# Altium footprint library 6-103635-0.PcbLib: 2 footprints
Each footprint in its own frame and in the unit in brackets; x right, y up, seen from the top. Pads: shape width x height; smd on the part's side, far side on the other; paste and mask are expansions set on the pad; w line width, h text height; cw(c..) or ccw(c..) is an arc to the next point about the centre after c.
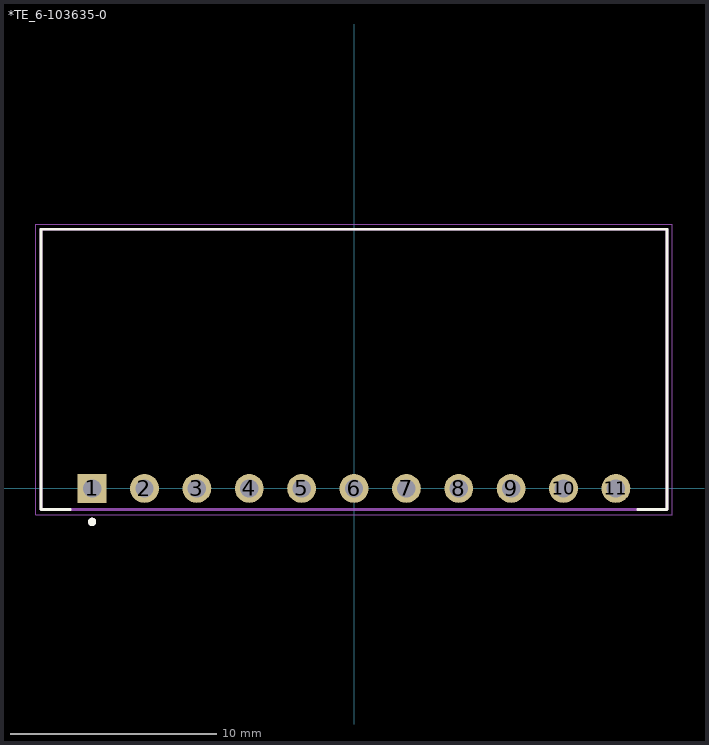
[diagram p0: the footprints below, top view; thin cyan lines are the x and y axes]

## *TE_6-103635-0 [mm]
pads (11):
  rect 1.398x1.398 hole 0.89: 1(-12.7,0)
  round 1.398 hole 0.89: 2(-10.16,0) 3(-7.62,0) 4(-5.08,0) 5(-2.54,0) 6(0,0) 7(2.54,0) 8(5.08,0) 9(7.62,0) 10(10.16,0) 11(12.7,0)
Top Overlay:
  circle w0.2: c-12.7,-1.62 r0.1
  lines w0.127: -13.756,-1.02 -15.18,-1.02 -15.18,12.57 15.18,12.57 15.18,-1.02 13.756,-1.02
Mechanical 4:
  circle w0.2: c-12.7,-1.62 r0.1
  circle w0.2: c-12.7,-1.62 r0.1
  lines w0.127: -15.18,-1.02 15.18,-1.02 ; -15.18,-1.02 -15.18,12.57 ; -15.18,-1.02 15.18,-1.02 ; -15.18,-1.02 -15.18,12.57 ; -15.18,12.57 15.18,12.57 ; -15.18,12.57 15.18,12.57 ; 15.18,-1.02 15.18,12.57 ; 15.18,-1.02 15.18,12.57
Mechanical 16:
  lines w0.05: -15.43,-1.27 -15.43,12.82 15.43,12.82 15.43,-1.27 -15.43,-1.27

## PCBComponent_1 [mil]